# Altium schematic symbol library DC-DC converters(WRB-2WR3).SchLib: 1 symbol
Pins are listed as number, name and electrical type; pins without a type are passive.

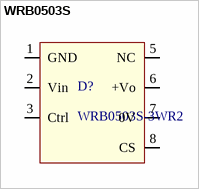
[diagram p0: symbol WRB0503S]

## WRB0503S
designator D?, comment WRB0503S-3WR2
3W, Wide input voltage, isolated & regulated dual / / single output DC/DC converter
footprint WRB-3WR2
pins: 1 GND, 2 Vin, 3 Ctrl, 5 NC, 6 +Vo, 7 0V, 8 CS